# Altium schematic symbol library Schlib1.SchLib: 1 symbol
Pins are listed as number, name and electrical type; pins without a type are passive.

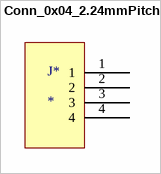
[diagram p0: symbol Conn_0x04_2.24mmPitch]

## Conn_0x04_2.24mmPitch
designator J*
pins: 1, 2, 3, 4